# Altium schematic symbol library Mechanical.SchLib: 1 symbol
Pins are listed as number, name and electrical type; pins without a type are passive.

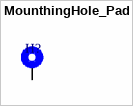
[diagram p0: symbol MounthingHole_Pad]

## MounthingHole_Pad
designator H?  (value not drawn)
Mounting Hole with connection
footprint MountingHole_2.2mm_M2_Pad
pins: 1